# Altium footprint library RP2040LED.PcbLib: 20 footprints (part 2 of 2)
Each footprint in its own frame and in the unit in brackets; x right, y up, seen from the top. Pads: shape width x height; smd on the part's side, far side on the other; paste and mask are expansions set on the pad; w line width, h text height; cw(c..) or ccw(c..) is an arc to the next point about the centre after c.
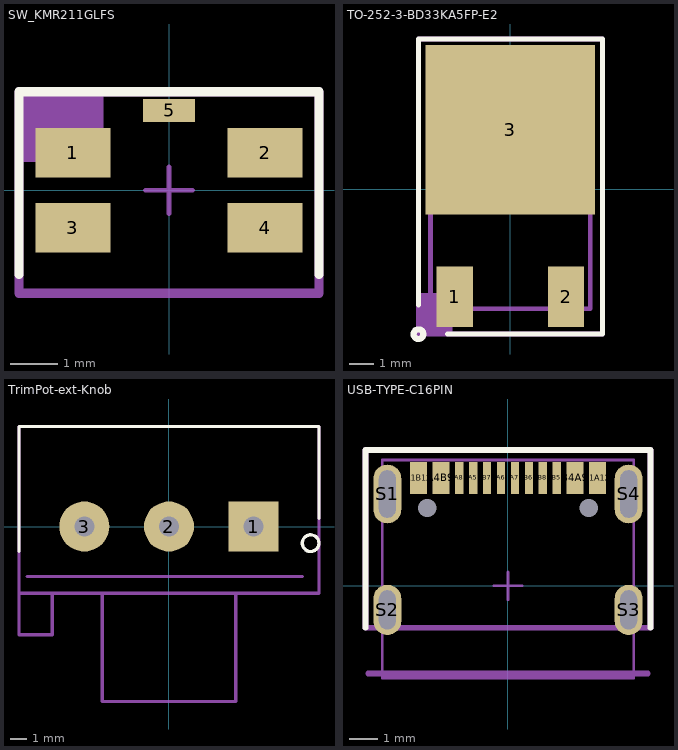
[diagram p1: the footprints below, top view; thin cyan lines are the x and y axes]

## SW_KMR211GLFS [mm] "4.6x2.8mm Straight"
pads (5):
  rect 1.6x1.05 smd: 1(-2.05,0.8) 2(2.05,0.8) 3(-2.05,-0.8) 4(2.05,-0.8)
  rect 1.1x0.5 smd paste-5: 5(0,1.7)
Top Overlay:
  lines w0.2: -3.2,-1.8 -3.2,2.1 3.2,2.1 3.2,-1.8
Assembly Text Top:
  text ".Designator" at -1.4,-0.1 h1.5
Assembly Top:
  rectangle: -3.2,0.6 -1.4,2.1
  lines w0.2: -3.2,-2.2 3.2,-2.2 3.2,2.1 -3.2,2.1 -3.2,-2.2
Courtyard Top:
  lines w0.1: -0.5,0 0.5,0 ; 0,-0.5 0,0.5
  lines w0.2: -3.2,-2.2 3.2,-2.2 3.2,2 3.2,2.1 -3.2,2.1 -3.2,-2.2
3D body: height 1.95, standoff 1.4, extent -1.1,-0.8 1.1,0.8
3D body: height 1.92, standoff -0.02, extent -2.3,-1.4 2.3,1.4
3D body: height 1.1, standoff 0.1, extent -0.85,-2.1 0.85,-1.4

## TO-252-3-BD33KA5FP-E2 [mm] "3V3 LDO Rohm"
pads (3):
  rect 1.5x2.5 smd mask+0.07: 1(-2.3,-4.45) 2(2.3,-4.45)
  rect 7x7 smd paste-3.5 mask+0.07: 3(0,2.45)
Top Overlay:
  circle w0.254: c-3.8,-6 r0.2
  lines w0.2: -3.8,-4.8 -3.8,6.2 3.8,6.2 3.8,-6 -2.6,-6
Top Paste:
  rectangle: -3,-0.5 -0.3,2.2
  region: 3,2.2 0.3,2.2 0.3,-0.5 3,-0.5
  region: 3,5.5 0.3,5.5 0.3,2.8 3,2.8
  rectangle: -3,2.8 -0.3,5.5
Assembly Text Top:
  text ".Designator" at -1.4,-2.1 h1.5
Assembly Top:
  rectangle: -3.8,-6 -2.4,-4.3
  lines w0.2: -3.8,-6 -3.8,6.2 3.8,6.2 3.8,-6 -3.8,-6
Courtyard Top:
  lines w0.1: -0.5,0 0.5,0 ; 0,-0.5 0,0.5
  lines w0.2: -3.3,-4.95 3.3,-4.95 3.3,4.55 -3.3,4.55 -3.3,-4.95
3D body: height 2.5, standoff 0, extent -3.25,-4.75 3.25,4.75

## TrimPot-ext-Knob [mm] "Amazon WMYCONGCONG WH148"
pads (3):
  rect 3x3 hole 1.2: 1(5.08,0)
  round 3 hole 1.2: 2(0,0) 3(-5.08,0)
Top Overlay:
  circle w0.2: c8.5,-1 r0.5
  lines w0.2: -9,-1.5 -9,6 9,6 9,0.5
Mechanical 4:
  lines w0.2: -8.5,-3 8,-3
  text "PCB EDGE" at -4,-4.5 h1
Assembly Text Top:
  text ".Designator" at -5.4,2.9 h1.5
Assembly Top:
  lines w0.2: -7,-4 -7,-6.5 -9,-6.5 -9,-4 ; -4,-4 -4,-10.5 4,-10.5 4,-4 ; -9,-4 -9,6 9,6 9,-4 -9,-4
3D body: height 19, standoff 5, extent -7,-29.5 7,-13.5
3D body: height 20.5, standoff -1, extent -8.5,-29 8.5,5.5

## USB-TYPE-C16PIN [mm] "JLC C393939 Shou Han"
pads (18):
  rect 0.6x1.15 smd mask+0.04: A1B12(-3.2,3.862) A4B9(-2.4,3.862) B1A12(3.2,3.862) B4A9(2.4,3.862)
  rect 0.3x1.15 smd mask+0.04: A5(-1.25,3.862) A6(-0.25,3.862) A7(0.25,3.862) A8(-1.75,3.862) B5(1.75,3.862) B6(0.75,3.862) B7(-0.75,3.862) B8(1.25,3.862)
  rect 0x0 hole 0.65 unplated mask+0.04: M1(-2.89,2.788) M2(2.89,2.788)
  oval 1x2.1 hole 0.6 slot 1.7 at 90 deg mask+0.04: S1(-4.32,3.287) S4(4.32,3.287)
  oval 1x1.8 hole 0.6 slot 1.4 at 90 deg mask+0.04: S2(-4.32,-0.863) S3(4.32,-0.863)
Top Overlay:
  lines w0.2: -5.1,-1.5 -5.1,4.862 5.1,4.862 5.1,-1.5
Mechanical 4:
  lines w0.2: -5,-3.138 5,-3.138
  text "USB EDGE" at -4.2,-4.638 h1
Assembly Text Top:
  text ".Designator" at -1.55,-0.138 h1.4
Assembly Top:
  lines w0.2: -5.1,-1.5 -5.1,4.862 5.1,4.862 5.1,-1.5 -5.1,-1.5
Courtyard Top:
  lines w0.1: -0.5,0 0.5,0 ; 0,-0.5 0,0.5 ; -4.5,-3.3 4.5,-3.3 4.5,4.5 -4.5,4.5 -4.5,-3.3
3D body: height 3.23, standoff -1.03, extent -4.47,-3.281 4.47,3.619